# EAGLE library part MBC1B (library gameboy)
Nintendo Gameboy cartridge Memory Bank Controller (MBC) Specifically based on the MBC1-B chip
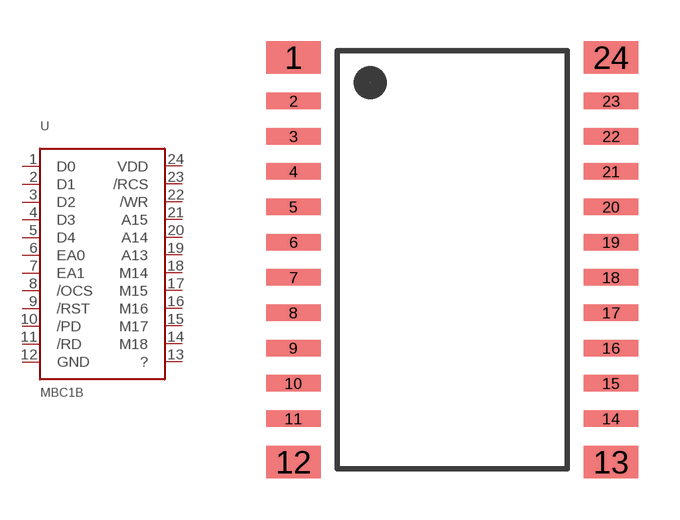
[diagram p1: symbol with the pads of MBC1B; footprint MBC1B]

Designator prefix -

## MBC1B  [MBC1B]
1  D0
2  D1
3  D2
4  D3
5  D4
6  EA0
7  EA1
8  /OCS
9  /RST
10  /PD
11  /RD
12  GND  pwr
13  ?
14  M18
15  M17
16  M16
17  M15
18  M14
19  A13
20  A14
21  A15
22  /WR
23  /RCS
24  VDD  pwr

## Footprint MBC1B (pad centres in mm)
Nintendo Gameboy cartridge Memory Bank Controller (MBC) Specifically based on the MBC1-B chip
smd 2 x 1.2: 1 1,-0.6; 12 1,-15.39; 13 12.6,-15.39; 24 12.6,-0.6
smd 2 x 0.6: 2 1,-2.19; 3 1,-3.48; 4 1,-4.77; 5 1,-6.06; 6 1,-7.35; 7 1,-8.64; 8 1,-9.93; 9 1,-11.22; 10 1,-12.51; 11 1,-13.8; 14 12.6,-13.8; 15 12.6,-12.51; 16 12.6,-11.22; 17 12.6,-9.93; 18 12.6,-8.64; 19 12.6,-7.35; 20 12.6,-6.06; 21 12.6,-4.77; 22 12.6,-3.48; 23 12.6,-2.19